# Altium footprint library SnapEDApcb.PcbLib: 1 footprints
Each footprint in its own frame and in the unit in brackets; x right, y up, seen from the top. Pads: shape width x height; smd on the part's side, far side on the other; paste and mask are expansions set on the pad; w line width, h text height; cw(c..) or ccw(c..) is an arc to the next point about the centre after c.
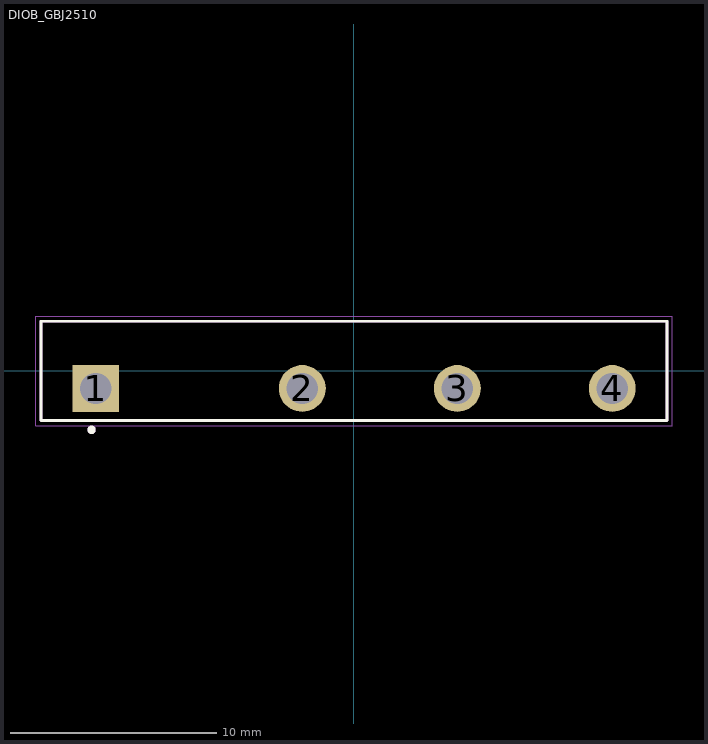
[diagram p0: the footprint, top view; thin cyan lines are the x and y axes]

## DIOB_GBJ2510 [mm]
pads (4):
  rect 2.27x2.27 hole 1.51: 1(-12.5,-0.85)
  round 2.27 hole 1.51: 2(-2.5,-0.85) 3(5,-0.85) 4(12.5,-0.85)
Top Overlay:
  circle w0.2: c-12.7,-2.85 r0.1
  lines w0.127: -15.15,-2.4 -15.15,2.4 15.15,2.4 15.15,-2.4 -15.15,-2.4
Mechanical 13:
  circle w0.2: c-12.7,-2.85 r0.1
  lines w0.127: -15.15,-2.4 -15.15,2.4 15.15,2.4 15.15,-2.4 -15.15,-2.4
Mechanical 15:
  lines w0.05: -15.4,-2.65 -15.4,2.65 15.4,2.65 15.4,-2.65 -15.4,-2.65
3D body "GBJ2510.STEP": height 24.5, standoff -13.8, extent -14.859,-2.427 15.141,2.173